# Altium footprint library Drossel.PcbLib: 60 footprints (part 3 of 4)
Each footprint in its own frame and in the unit in brackets; x right, y up, seen from the top. Pads: shape width x height; smd on the part's side, far side on the other; paste and mask are expansions set on the pad; w line width, h text height; cw(c..) or ccw(c..) is an arc to the next point about the centre after c.
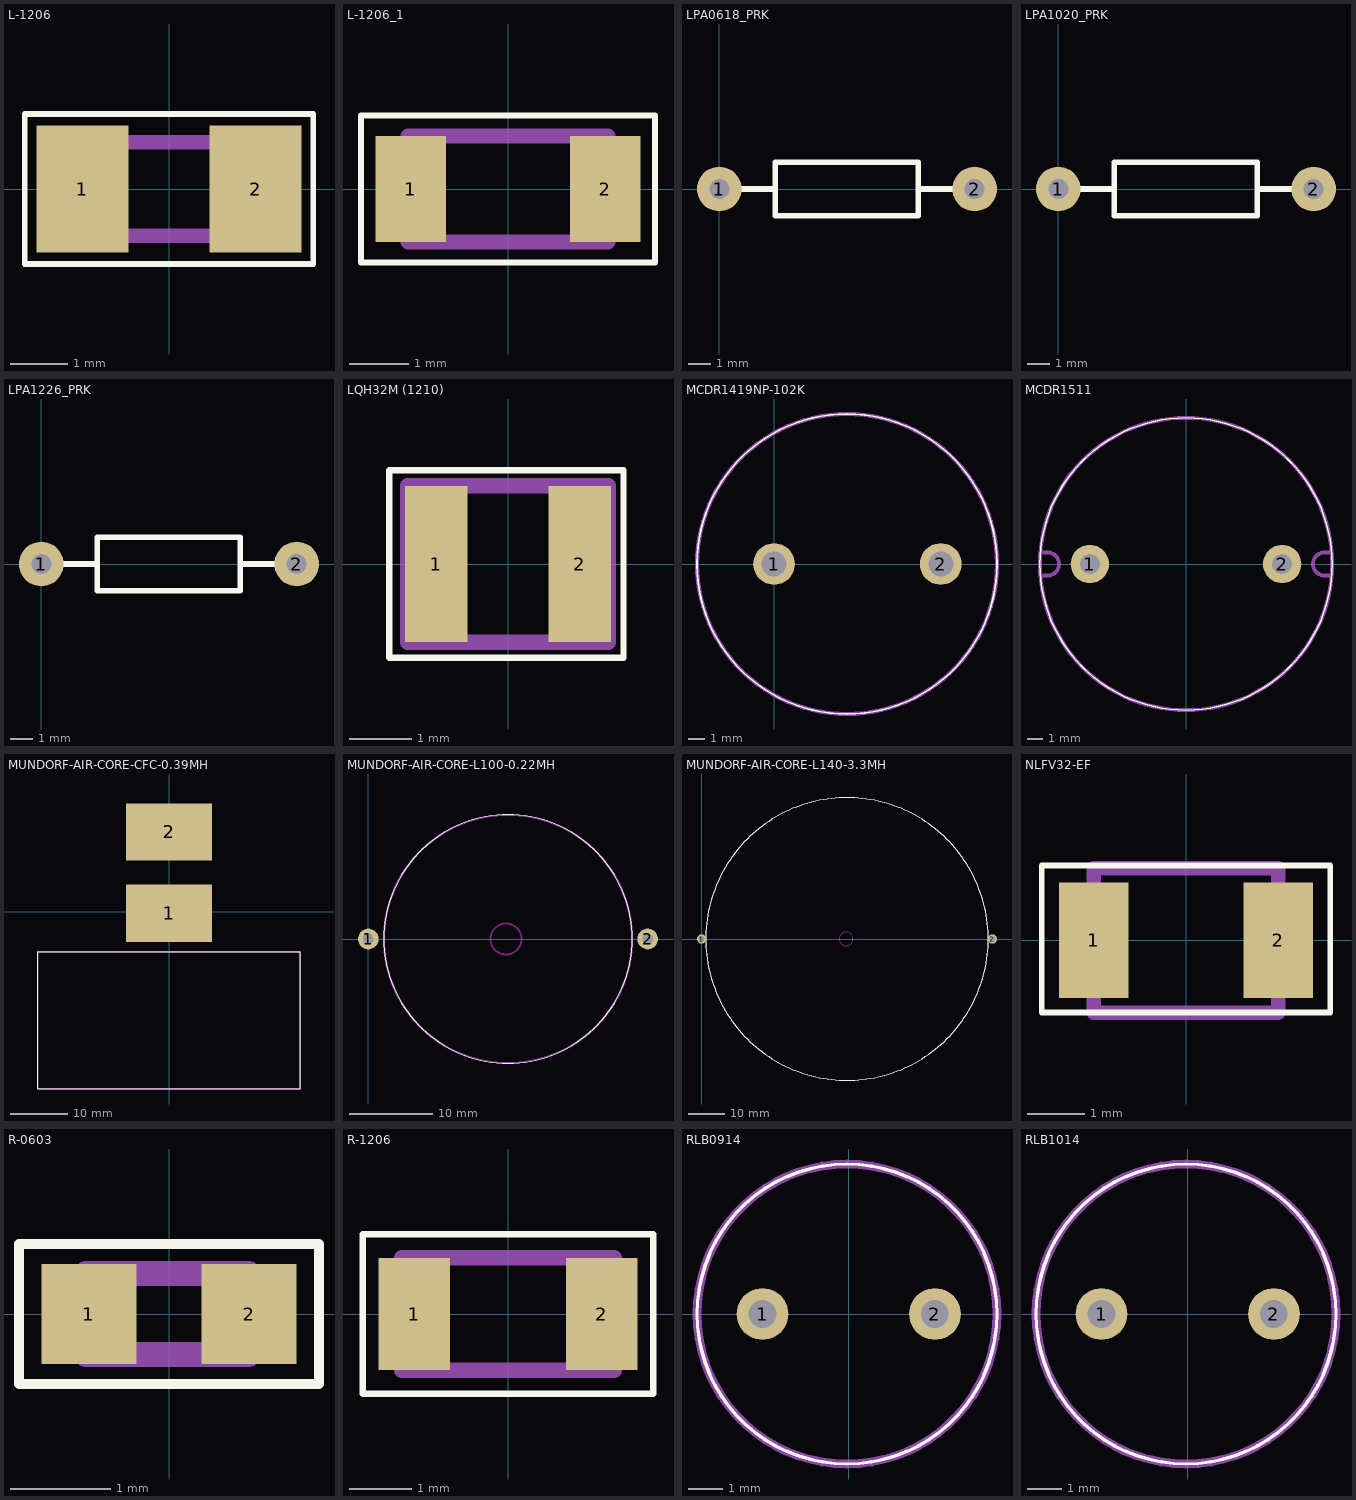
[diagram p2: the footprints below, top view; thin cyan lines are the x and y axes]

## L-1206 [mm]
pads (2):
  rect 1.6x2.2 smd: 1(-1.5,0) 2(1.5,0)
Top Overlay:
  lines w0.1: -2.5,-1.3 2.5,-1.3 2.5,1.3 -2.5,1.3 -2.5,-1.3
Mechanical 1:
  lines w0.25: -1.706,-0.813 1.546,-0.813 1.546,0.813 -1.706,0.813 -1.706,-0.813

## L-1206_1 [mm]
pads (2):
  rect 1.2x1.8 smd: 1(-1.65,0) 2(1.65,0)
Top Overlay:
  lines w0.1: -2.5,-1.25 2.5,-1.25 2.5,1.25 -2.5,1.25 -2.5,-1.25
Mechanical 1:
  lines w0.25: -1.7,-0.9 1.7,-0.9 1.7,0.9 -1.7,0.9 -1.7,-0.9

## LPA0618_PRK [mm]
pads (2):
  round 2 hole 0.9: 1(0,0) 2(11.43,0)
Top Overlay:
  lines w0.1: -0.635,0 0,0 ; 0,-0.635 0,0.635 ; 11.4,0 12.065,0 ; 11.43,-0.635 11.43,0.635
  lines w0.254: 0,0 2.5,0 ; 8.9,0 11.4,0 ; 2.5,-1.2 8.9,-1.2 8.9,1.2 2.5,1.2 2.5,-1.2

## LPA1020_PRK [mm]
pads (2):
  round 2 hole 0.9: 1(0,0) 2(11.43,0)
Top Overlay:
  lines w0.1: -0.635,0 0,0 ; 0,-0.635 0,0.635 ; 11.4,0 12.065,0 ; 11.43,-0.635 11.43,0.635
  lines w0.254: 0,0 2.5,0 ; 8.9,0 11.4,0 ; 2.5,-1.2 8.9,-1.2 8.9,1.2 2.5,1.2 2.5,-1.2

## LPA1226_PRK [mm]
pads (2):
  round 2 hole 0.9: 1(0,0) 2(11.43,0)
Top Overlay:
  lines w0.1: -0.635,0 0,0 ; 0,-0.635 0,0.635 ; 11.4,0 12.065,0 ; 11.43,-0.635 11.43,0.635
  lines w0.254: 0,0 2.5,0 ; 8.9,0 11.4,0 ; 2.5,-1.2 8.9,-1.2 8.9,1.2 2.5,1.2 2.5,-1.2

## LQH32M (1210) [mm]
pads (2):
  rect 1x2.5 smd: 1(-1.15,0) 2(1.15,0)
Top Overlay:
  lines w0.1: -1.9,-1.5 1.85,-1.5 1.85,1.5 -1.9,1.5 -1.9,-1.5
Mechanical 1:
  lines w0.25: -1.6,-1.25 1.6,-1.25 1.6,1.25 -1.6,1.25 -1.6,-1.25

## MCDR1419NP-102K [mm]
pads (2):
  round 2.5 hole 1.5: 1(0,0) 2(10,0)
Top Overlay:
  lines w0.1: -4.625,0 cw(c4.375,0) 13.375,0 cw(c4.375,0) -4.625,0
Mechanical 1:
  lines w0.25: -4.625,0 cw(c4.375,0) 13.375,0 cw(c4.375,0) -4.625,0

## MCDR1511 [mm]
pads (2):
  round 2.5 hole 1.3: 1(-6.25,0) 2(6.25,0)
Top Overlay:
  lines w0.1: 0,-9.5 ccw(c0,0) 0,9.5 ccw(c0,0) 0,-9.5
Mechanical 1:
  lines w0.25: -9.45,-0.75 -9,-0.75 ccw(c-9,0) -9,0.75 -9.45,0.75 ; 9.45,-0.75 9,-0.75 cw(c9,0) 9,0.75 9.45,0.75 ; 0,-9.5 ccw(c0,0) 0,9.5 ccw(c0,0) 0,-9.5

## MUNDORF-AIR-CORE-CFC-0.39MH [mm]
pads (2):
  rect 15x10 smd: 1(0,-0.25) 2(0,14)
Top Overlay:
  lines w0.1: -23,-31 23,-31 23,-7 -23,-7 -23,-31
Mechanical 1:
  lines w0.25: -23,-31 23,-31 23,-7 -23,-7 -23,-31

## MUNDORF-AIR-CORE-L100-0.22MH [mm]
pads (2):
  round 2.5 hole 1.3: 1(0,0) 2(33.75,0)
Top Overlay:
  lines w0.1: 1.875,0 cw(c16.875,0) 31.875,0 cw(c16.875,0) 1.875,0
Keep-Out Layer:
  lines w0.25: 14.75,0 ccw(c16.625,0) 18.5,0 ccw(c16.625,0) 14.75,0
Mechanical 1:
  lines w0.25: 1.875,0 cw(c16.875,0) 31.875,0 cw(c16.875,0) 1.875,0

## MUNDORF-AIR-CORE-L140-3.3MH [mm]
pads (2):
  round 2.5 hole 1.6: 1(0,0) 2(79.25,0)
Top Overlay:
  lines w0.1: 1.125,0 ccw(c39.625,0) 78.125,0 ccw(c39.625,0) 1.125,0
Keep-Out Layer:
  lines w0.25: 37.5,0 ccw(c39.375,0) 41.25,0 ccw(c39.375,0) 37.5,0
Mechanical 1:
  lines w0.25: 1.125,0 ccw(c39.625,0) 78.125,0 ccw(c39.625,0) 1.125,0

## NLFV32-EF [mm]
pads (2):
  rect 1.2x2 smd: 1(-1.6,0) 2(1.6,0)
Top Overlay:
  lines w0.1: -2.5,-1.25 -2.5,1.3 2.5,1.3 2.5,-1.25 2.3,-1.25 -2.45,-1.25 -2.5,-1.25
Mechanical 1:
  lines w0.25: -1.6,-1.25 1.6,-1.25 1.6,1.25 -1.6,1.25 -1.6,-1.25

## R-0603 [mm]
pads (2):
  rect 0.95x1 smd: 1(-0.8,0) 2(0.8,0)
Top Overlay:
  lines w0.1: -1.5,-0.7 1.5,-0.7 1.5,0.7 -1.5,0.7 -1.5,-0.7
Mechanical 1:
  lines w0.25: -0.828,-0.406 0.797,-0.406 0.797,0.406 -0.828,0.406 -0.828,-0.406

## R-1206 [mm]
pads (2):
  rect 1.15x1.8 smd: 1(-1.5,0) 2(1.5,0)
Top Overlay:
  lines w0.1: -2.325,-1.275 2.325,-1.275 2.325,1.275 -2.325,1.275 -2.325,-1.275
Mechanical 1:
  lines w0.25: -1.7,-0.9 1.7,-0.9 1.7,0.9 -1.7,0.9 -1.7,-0.9

## RLB0914 [mm]
pads (2):
  round 1.5 hole 0.8: 1(-2.5,0) 2(2.5,0)
Top Overlay:
  lines w0.1: -4.4,0 cw(c-0.05,0) 4.3,0 cw(c-0.05,0) -4.4,0
Mechanical 1:
  lines w0.25: -4.4,0 cw(c-0.05,0) 4.3,0 cw(c-0.05,0) -4.4,0

## RLB1014 [mm]
pads (2):
  round 1.5 hole 0.8: 1(-2.5,0) 2(2.5,0)
Top Overlay:
  lines w0.1: -4.4,0 cw(c-0.05,0) 4.3,0 cw(c-0.05,0) -4.4,0
Mechanical 1:
  lines w0.25: -4.4,0 cw(c-0.05,0) 4.3,0 cw(c-0.05,0) -4.4,0